# Altium footprint library G5LE1A4DC3.PcbLib: 1 footprints
Each footprint in its own frame and in the unit in brackets; x right, y up, seen from the top. Pads: shape width x height; smd on the part's side, far side on the other; paste and mask are expansions set on the pad; w line width, h text height; cw(c..) or ccw(c..) is an arc to the next point about the centre after c.
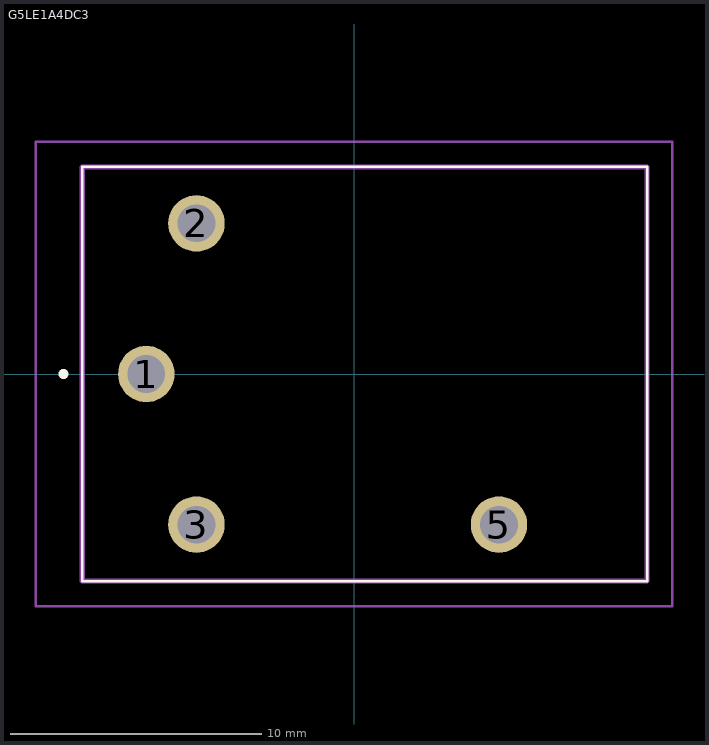
[diagram p0: the footprint, top view; thin cyan lines are the x and y axes]

## G5LE1A4DC3 [mm]
pads (4):
  round 2.25 hole 1.5: 1(-8.275,0) 2(-6.275,6) 3(-6.275,-6) 5(5.776,-6)
Top Overlay:
  lines w0.1: -10.825,-8.25 11.675,-8.25 11.675,8.25 -10.825,8.25 -10.825,-8.25
  lines w0.2: -11.575,-0.1 -11.575,-0.1 ; -11.575,-0.1 cw(c-11.575,0) -11.575,0.1 ; -11.575,-0.1 ccw(c-11.575,0) -11.575,0.1 ; -11.575,0.1 -11.575,0.1
Mechanical 15:
  lines w0.2: -10.825,-8.25 11.675,-8.25 11.675,8.25 -10.825,8.25 -10.825,-8.25
Mechanical 20:
  lines w0.1: -12.675,-9.25 12.675,-9.25 12.675,9.25 -12.675,9.25 -12.675,-9.25
3D body "G5LE-1A4_DC3.stp": height 5.8, standoff -4.65, extent -10,-3.376 10,3.376